# Altium footprint library 0805_resistor.PcbLib: 1 footprints
Each footprint in its own frame and in the unit in brackets; x right, y up, seen from the top. Pads: shape width x height; smd on the part's side, far side on the other; paste and mask are expansions set on the pad; w line width, h text height; cw(c..) or ccw(c..) is an arc to the next point about the centre after c.
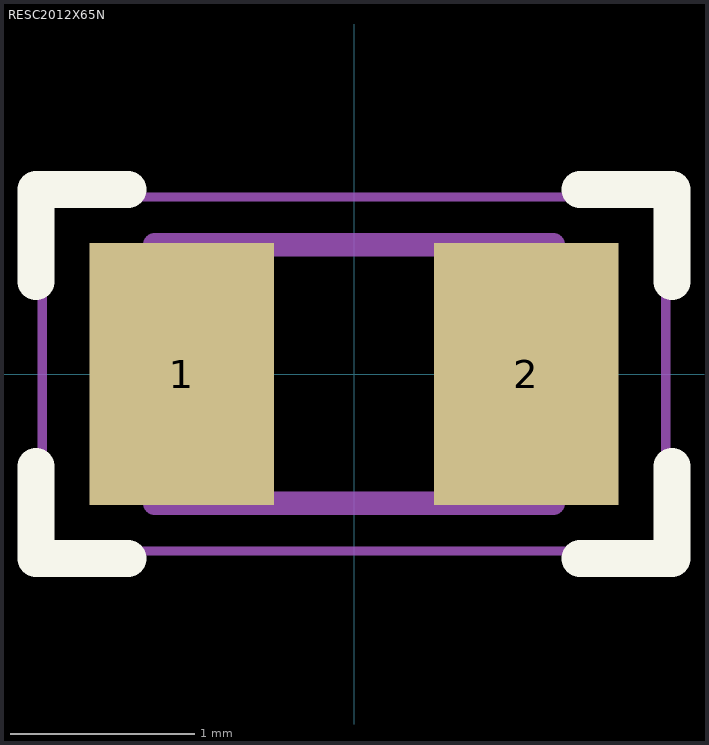
[diagram p0: the footprint, top view; thin cyan lines are the x and y axes]

## RESC2012X65N [mm]
pads (2):
  rect 1x1.42 smd: 1(-0.935,0) 2(0.935,0)
Top Overlay:
  lines w0.2: -1.725,-0.5 -1.725,-1 -1.225,-1 ; -1.725,0.5 -1.725,1 -1.225,1 ; 1.225,-1 1.725,-1 1.725,-0.5 ; 1.225,1 1.725,1 1.725,0.5
Mechanical 4:
  lines w0.127: -1.08,-0.7 -1.08,0.7 ; -1.08,-0.7 1.08,-0.7 ; -1.08,-0.7 -1.08,0.7 ; -1.08,-0.7 1.08,-0.7 ; -1.08,0.7 1.08,0.7 ; -1.08,0.7 1.08,0.7 ; 1.08,-0.7 1.08,0.7 ; 1.08,-0.7 1.08,0.7
Mechanical 16:
  lines w0.05: -1.69,-0.96 -1.69,0.96 1.69,0.96 1.69,-0.96 -1.69,-0.96
3D body "res0805.STEP": height 0.5, standoff 0, extent -1.249,-0.75 1.25,0.75